# Altium footprint library PG4D.PcbLib: 37 footprints (part 2 of 3)
Each footprint in its own frame and in the unit in brackets; x right, y up, seen from the top. Pads: shape width x height; smd on the part's side, far side on the other; paste and mask are expansions set on the pad; w line width, h text height; cw(c..) or ccw(c..) is an arc to the next point about the centre after c.
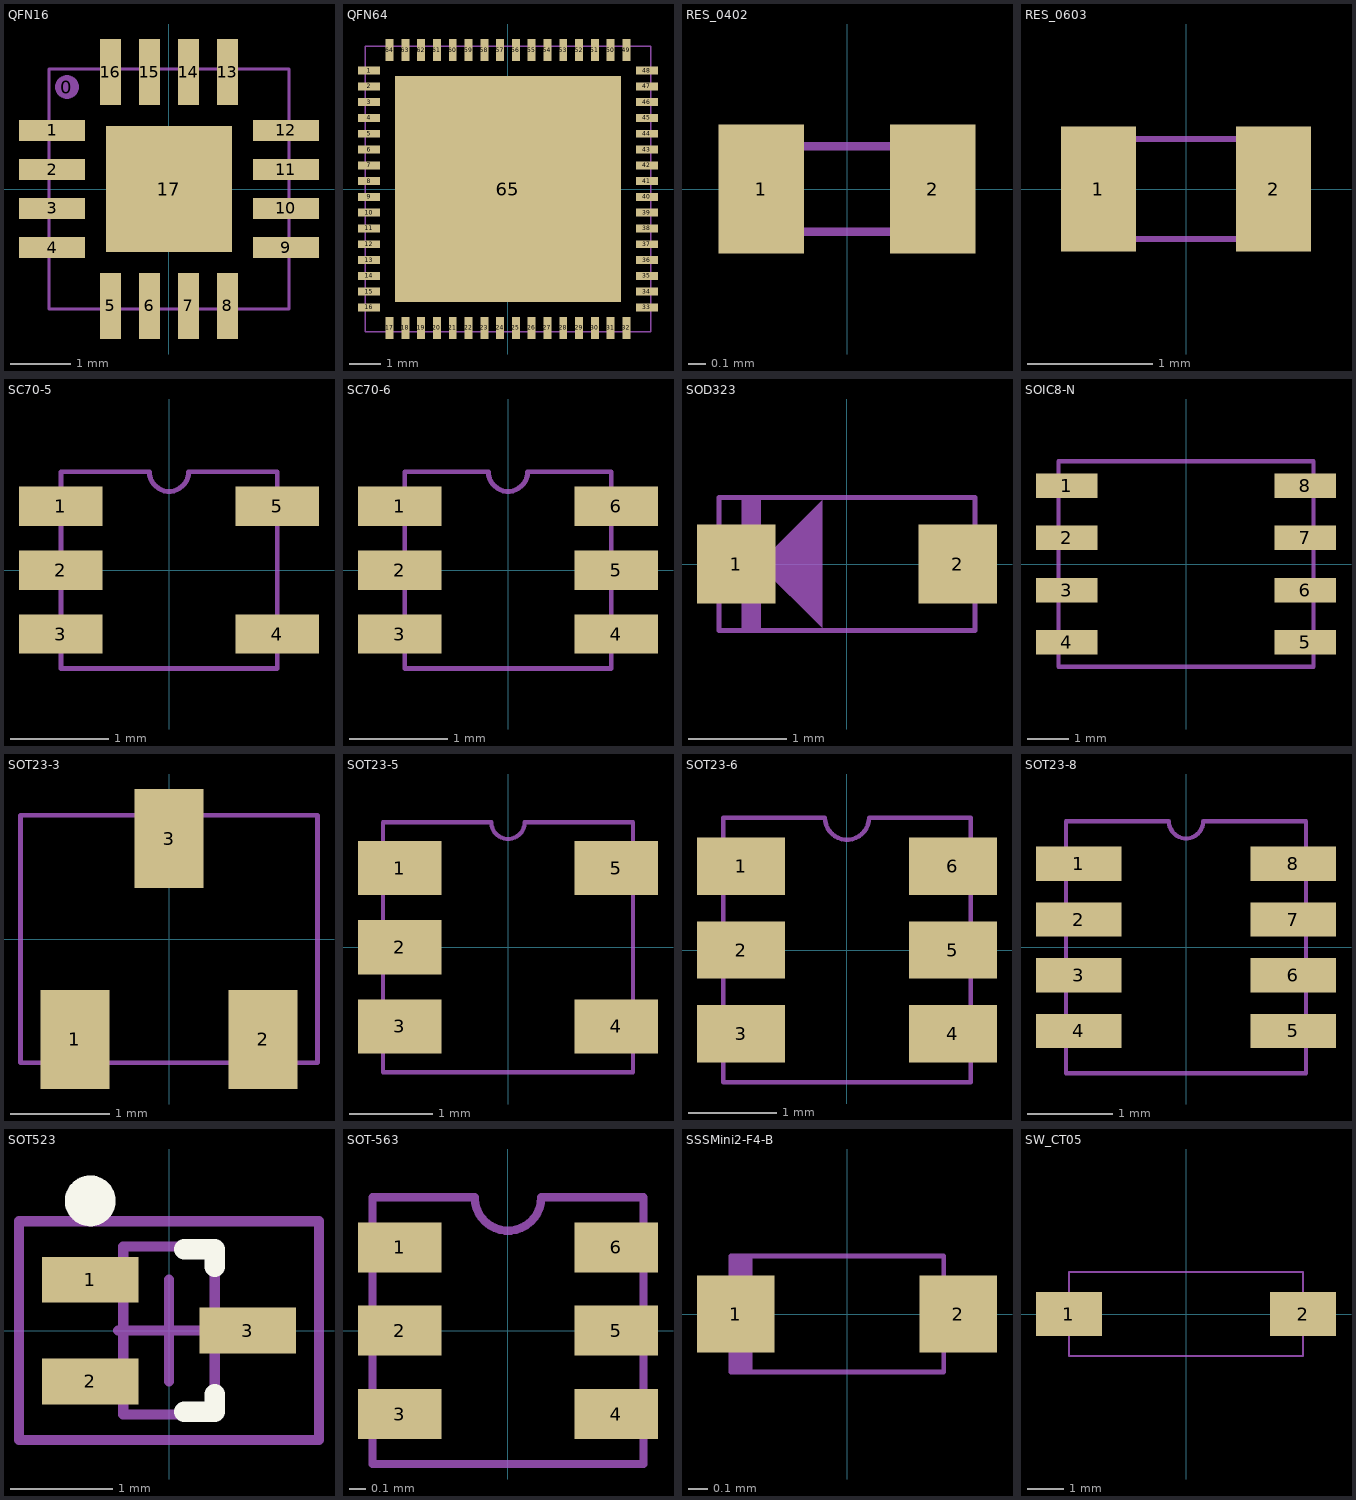
[diagram p1: the footprints below, top view; thin cyan lines are the x and y axes]

## QFN16 [mm] "16-Leads QFN 4.00 x 4.00 mm package"
height 0.8
pads (18):
  round 0.4 on Mech5: 0(-1.7,1.7)
  rect 1.1x0.35 smd: 1(-1.95,0.975) 2(-1.95,0.325) 3(-1.95,-0.325) 4(-1.95,-0.975) 9(1.95,-0.975) 10(1.95,-0.325) 11(1.95,0.325) 12(1.95,0.975)
  rect 0.35x1.1 smd: 5(-0.975,-1.95) 6(-0.325,-1.95) 7(0.325,-1.95) 8(0.975,-1.95) 13(0.975,1.95) 14(0.325,1.95) 15(-0.325,1.95) 16(-0.975,1.95)
  rect 2.1x2.1 smd: 17(0,0)
Top Assy:
  lines w0.05: -2,-2 2,-2 2,2 -2,2 -2,-2
  text "16" at -1.15,2.55 h0.3
  text "13" at 0.85,2.55 h0.3
  text "12" at 2.55,0.9 h0.3
  text "9" at 2.55,-1.1 h0.3
  text "8" at 0.9,-2.75 h0.3
  text "5" at -1.05,-2.75 h0.3
  text "4" at -2.65,-1.1 h0.3
  text "1" at -2.6,0.85 h0.3
3D body: height 0.92, standoff 0, extent -2,-2 2,2

## QFN64 [mm] "64-Leads QFN 9.00 x 9.00 mm"
height 1
pads (65):
  rect 0.7x0.25 smd: 1(-4.4,3.75) 2(-4.4,3.25) 3(-4.4,2.75) 4(-4.4,2.25) 5(-4.4,1.75) 6(-4.4,1.25) 7(-4.4,0.75) 8(-4.4,0.25) 9(-4.4,-0.25) 10(-4.4,-0.75) 11(-4.4,-1.25) 12(-4.4,-1.75) 13(-4.4,-2.25) 14(-4.4,-2.75) 15(-4.4,-3.25) 16(-4.4,-3.75) 33(4.4,-3.75) 34(4.4,-3.25) 35(4.4,-2.75) 36(4.4,-2.25) 37(4.4,-1.75) 38(4.4,-1.25) 39(4.4,-0.75) 40(4.4,-0.25) 41(4.4,0.25) 42(4.4,0.75) 43(4.4,1.25) 44(4.4,1.75) 45(4.4,2.25) 46(4.4,2.75) 47(4.4,3.25) 48(4.4,3.75)
  rect 0.25x0.7 smd: 17(-3.75,-4.4) 18(-3.25,-4.4) 19(-2.75,-4.4) 20(-2.25,-4.4) 21(-1.75,-4.4) 22(-1.25,-4.4) 23(-0.75,-4.4) 24(-0.25,-4.4) 25(0.25,-4.4) 26(0.75,-4.4) 27(1.25,-4.4) 28(1.75,-4.4) 29(2.25,-4.4) 30(2.75,-4.4) 31(3.25,-4.4) 32(3.75,-4.4) 49(3.75,4.4) 50(3.25,4.4) 51(2.75,4.4) 52(2.25,4.4) 53(1.75,4.4) 54(1.25,4.4) 55(0.75,4.4) 56(0.25,4.4) 57(-0.25,4.4) 58(-0.75,4.4) 59(-1.25,4.4) 60(-1.75,4.4) 61(-2.25,4.4) 62(-2.75,4.4) 63(-3.25,4.4) 64(-3.75,4.4)
  rect 7.15x7.15 smd: 65(0,0)
Top Assy:
  lines w0.05: -4.52,-4.52 4.52,-4.52 4.52,4.52 -4.52,4.52 -4.52,-4.52
  text "1" at -4.95,3.65 h0.3
  text "16" at -5.15,-3.85 h0.3
  text "17" at -3.9,-5.1 h0.3
  text "32" at 3.6,-5.1 h0.3
  text "33" at 4.9,-3.85 h0.3
  text "48" at 4.9,3.65 h0.3
  text "49" at 3.6,4.9 h0.3
  text "64" at -3.9,4.9 h0.3
3D body: height 0.89, standoff -0.01, extent -4.52,-4.52 4.52,4.52

## RES_0402 [mm] "0402 case"
pads (2):
  rect 0.5x0.75 smd: 1(-0.5,0) 2(0.5,0)
Top Assy:
  lines w0.05: -0.5,-0.25 0.5,-0.25 0.5,0.25 -0.5,0.25 -0.5,-0.25
3D body: height 0.3, standoff 0, extent -0.5,-0.25 0.5,0.25

## RES_0603 [mm] "0603 case"
pads (2):
  rect 0.6x1 smd: 1(-0.7,0) 2(0.7,0)
Top Assy:
  lines w0.05: -0.8,-0.4 0.8,-0.4 0.8,0.4 -0.8,0.4 -0.8,-0.4
3D body: height 0.4, standoff 0, extent -0.8,-0.4 0.8,0.4

## SC70-5 [mm] "5-Lead SC70-5 package"
height 1.1
pads (5):
  rect 0.85x0.4 smd: 1(-1.1,0.65) 2(-1.1,0) 3(-1.1,-0.65) 4(1.1,-0.65) 5(1.1,0.65)
Top Assy:
  lines w0.05: -1.1,-1 1.1,-1 1.1,1 0.2,1 0.2,1 cw(c0,1) -0.2,1 -0.2,1 -1.1,1 -1.1,-1
  text "1" at -1.7,0.55 h0.3
3D body: height 0.95, standoff -0.02, extent -1.1,-1 1.1,1

## SC70-6 [mm] "6-Lead SC70-6 package"
height 1.1
pads (6):
  rect 0.85x0.4 smd: 1(-1.1,0.65) 2(-1.1,0) 3(-1.1,-0.65) 4(1.1,-0.65) 5(1.1,0) 6(1.1,0.65)
Top Assy:
  lines w0.05: -1.05,-1 -1.05,1 -0.2,1 -0.2,1 ccw(c0,1) 0.2,1 0.2,1 1.05,1 1.05,-1 -1.05,-1
  text "1" at -1.8,0.5 h0.5
3D body: height 0.92, standoff -0.03, extent -1.05,-1 1.05,1

## SOD323 [mm] "2-Lead SOD323 package"
height 1.1
pads (2):
  rect 0.8x0.8 smd: 1(-1.125,0) 2(1.125,0)
Top Assy:
  region: -0.9,0 -0.25,0.65 -0.25,-0.65
  lines w0.05: -1.05,-0.675 -1.05,0.675 ; -1,-0.675 -1,0.675 ; -0.95,-0.675 -0.95,0.675 ; -0.9,-0.675 -0.9,0.675 ; -1.3,-0.675 1.3,-0.675 1.3,0.675 -1.3,0.675 -1.3,-0.675
3D body: height 1.1, standoff 0, extent -1.3,-0.675 1.3,0.675

## SOIC8-N [mm] "8-Lead SOIC 3.9mm body"
height 1.1
pads (8):
  rect 1.5x0.6 smd: 1(-2.9,1.905) 2(-2.9,0.635) 3(-2.9,-0.635) 4(-2.9,-1.905) 5(2.9,-1.905) 6(2.9,-0.635) 7(2.9,0.635) 8(2.9,1.905)
Top Assy:
  lines w0.1: -3.1,-2.5 -3.1,2.5 3.1,2.5 3.1,-2.5 -3.1,-2.5
3D body: height 1.74, standoff -0.02, extent -3.1,-2.5 3.1,2.5

## SOT23-3 [mm] "3-Lead SOT23 package"
height 1.12
pads (3):
  rect 0.7x1 smd: 1(-0.95,-1.015) 2(0.95,-1.015) 3(0,1.015)
Top Assy:
  lines w0.05: -1.5,-1.25 1.5,-1.25 1.5,1.25 -1.5,1.25 -1.5,-1.25
  text "1" at -1.05,-0.45 h0.5
3D body: height 1.08, standoff -0.02, extent -1.5,-1.25 1.5,1.25

## SOT23-5 [mm] "5-Lead SOT23 package"
height 1.2
pads (5):
  rect 1x0.65 smd: 1(-1.3,0.95) 2(-1.3,0) 3(-1.3,-0.95) 4(1.3,-0.95) 5(1.3,0.95)
Top Assy:
  lines w0.05: -1.5,-1.5 -1.5,1.5 -0.2,1.5 ccw(c0,1.5) 0.2,1.5 1.5,1.5 1.5,-1.5 -1.5,-1.5
  text "1" at -2,0.8 h0.5
3D body: height 1.3, standoff 0, extent -1.5,-1.5 1.5,1.5

## SOT23-6 [mm] "6-Lead SOT23 package"
height 1.1
pads (6):
  rect 1x0.65 smd: 1(-1.2,0.95) 2(-1.2,0) 3(-1.2,-0.95) 4(1.2,-0.95) 5(1.2,0) 6(1.2,0.95)
Top Assy:
  lines w0.05: -0.25,1.5 ccw(c0,1.5) 0.25,1.5 1.405,1.5 1.405,-1.5 -1.405,-1.5 -1.405,1.5 -0.25,1.5 ; -0.25,1.5 -0.25,1.5
  text "1" at -1.95,0.7 h0.7
3D body: height 0.86, standoff 0, extent -1.405,-1.5 1.405,1.5

## SOT23-8 [mm] "8-Lead SOT 23 package"
height 1.45
pads (8):
  rect 1x0.4 smd: 1(-1.25,0.975) 2(-1.25,0.325) 3(-1.25,-0.325) 4(-1.25,-0.975) 5(1.25,-0.975) 6(1.25,-0.325) 7(1.25,0.325) 8(1.25,0.975)
Top Assy:
  lines w0.05: -1.4,-1.47 1.4,-1.47 1.4,1.47 0.2,1.47 cw(c0,1.47) -0.2,1.47 -1.4,1.47 -1.4,-1.47
  text "1" at -1.95,0.8 h0.5
3D body: height 1.2, standoff 0, extent -1.4,-1.47 1.4,1.47

## SOT523 [mm] "SOT23, 3-Leads, Body 1,6x1,6mm (max), Pitch 0,50mm, IPC Medium Density"
height 0.75
pads (3):
  rect 0.95x0.45 smd: 1(-0.775,0.5) 2(-0.775,-0.5) 3(0.775,0)
Top Overlay:
  circle w0.25: c-0.775,1.275 r0.125
  lines w0.2: 0.15,-0.8 0.45,-0.8 0.45,-0.625 ; 0.15,0.8 0.45,0.8 0.45,0.625
Top Assy:
  lines w0.1: -0.45,-0.825 0.45,-0.825 0.45,0.825 -0.45,0.825 -0.45,-0.825
Mechanical 15:
  lines w0.1: -0.5,0 0.5,0 ; 0,-0.5 0,0.5 ; -1.475,-1.075 1.475,-1.075 1.475,1.075 -1.475,1.075 -1.475,-1.075
3D body: height 0.75, standoff 0.05, extent -0.45,-0.825 0.45,0.825

## SOT-563 [mm] "6-Lead SOT-563 package"
height 0.6
pads (6):
  rect 0.5x0.3 smd: 1(-0.65,0.5) 2(-0.65,0) 3(-0.65,-0.5) 4(0.65,-0.5) 5(0.65,0) 6(0.65,0.5)
Top Assy:
  lines w0.05: -0.2,0.8 -0.2,0.8 ; 0.2,0.8 0.2,0.8 ; -0.2,0.8 ccw(c0,0.8) 0.2,0.8 ; -0.2,0.8 -0.813,0.8 -0.813,-0.8 0.813,-0.8 0.813,0.8 0.2,0.8
  text "1" at -1.05,0.4 h0.4
3D body: height 0.58, standoff 0, extent -0.813,-0.8 0.813,0.8

## SSSMini2-F4-B [mm] "2-Leads SMT Diode"
height 0.55
pads (2):
  rect 0.4x0.4 smd: 1(-0.575,0) 2(0.575,0)
Top Assy:
  lines w0.025: -0.575,-0.3 -0.575,0.3 ; -0.55,-0.3 -0.55,0.3 ; -0.525,-0.3 -0.525,0.3 ; -0.5,-0.3 -0.5,0.3 ; -0.5,-0.3 0.5,-0.3 0.5,0.3 -0.5,0.3 ; -0.5,-0.3 -0.6,-0.3 -0.6,0.3 -0.5,0.3
  text "K" at -0.95,-0.1 h0.3
3D body: height 0.55, standoff 0, extent -0.5,-0.3 0.5,0.3

## SW_CT05 [mm] "2-Leads SMD Reed Switch"
height 2.31
pads (2):
  rect 1.8x1.2 smd: 1(-3.2,0) 2(3.2,0)
Top Assy:
  lines w0.05: -3.2,-1.15 3.2,-1.15 3.2,1.15 -3.2,1.15 -3.2,-1.15
3D body: height 2.31, standoff 0, extent -3.2,-1.15 3.2,1.15